# EAGLE library part CS2300-CP (library cirrus)
Fractional-N Clock Multiplier with Internal LCO
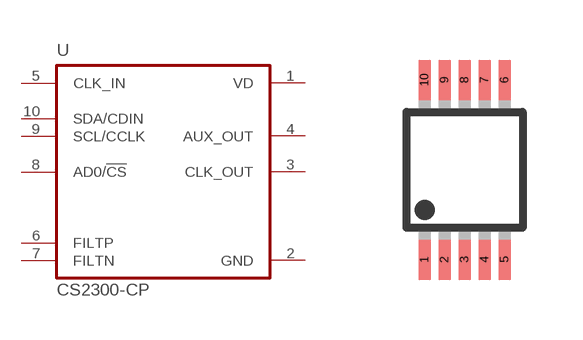
[diagram p14: symbol with the pads of MSOP10; footprint MSOP10]

Designator prefix U

## CS2300-CP  [MSOP10]
1  VD  pwr
2  GND  pwr
3  CLK_OUT  out
4  AUX_OUT  out
5  CLK_IN  in
6  FILTP
7  FILTN
8  AD0/!CS!
9  SCL/CCLK
10  SDA/CDIN

## Footprint MSOP10 (pad centres in mm)
MSOP 10L body 3mm, pitch 0.5mm
smd 0.3 x 1: 1 -1,-2.25; 2 -0.5,-2.25; 3 0,-2.25; 4 0.5,-2.25; 5 1,-2.25; 6 1,2.25; 7 0.5,2.25; 8 0,2.25; 9 -0.5,2.25; 10 -1,2.25